# Altium schematic symbol library Schlib_Toshiba_Semiconductor.SchLib: 3 symbols
Pins are listed as number, name and electrical type; pins without a type are passive.

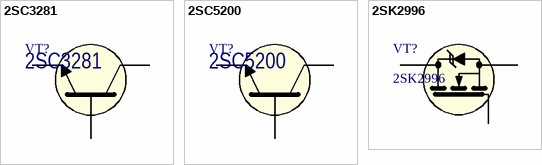
[diagram p0: symbols 2SC3281 to 2SK2996]

## 2SC3281
designator VT?
Triple Diffused Type n-p-n Transistors 200V, 15A, 150W; Manufacturer: Toshiba Semiconductor; Package: TO-3PL; Part Number: 2SC3281
footprint TO-3PL (VERTICAL,BLACK)
pins: 1 B, 2 C, 3 E

## 2SC5200
designator VT?
Triple Diffused Type n-p-n Transistors 230V, 15A, 150W; Manufacturer: Toshiba Semiconductor; Package: TO-3PL; Part Number: 2SC5200
footprint TO-3PL (VERTICAL,BLACK)
pins: 1 B, 2 C, 3 E

## 2SK2996
designator VT?
600V @ 10A N-Channel MOSFET Rds=1Ohm @ 5A, 10V; Manufacturer: Toshiba Semiconductor; Part Number: 2SK2996; Package: TO-220F-3
footprint TO-220F
pins: 1 G, 2 D, 3 S